# Altium footprint library HIP4082-DualMotorDriver.PcbLib: 16 footprints
Each footprint in its own frame and in the unit in brackets; x right, y up, seen from the top. Pads: shape width x height; smd on the part's side, far side on the other; paste and mask are expansions set on the pad; w line width, h text height; cw(c..) or ccw(c..) is an arc to the next point about the centre after c.
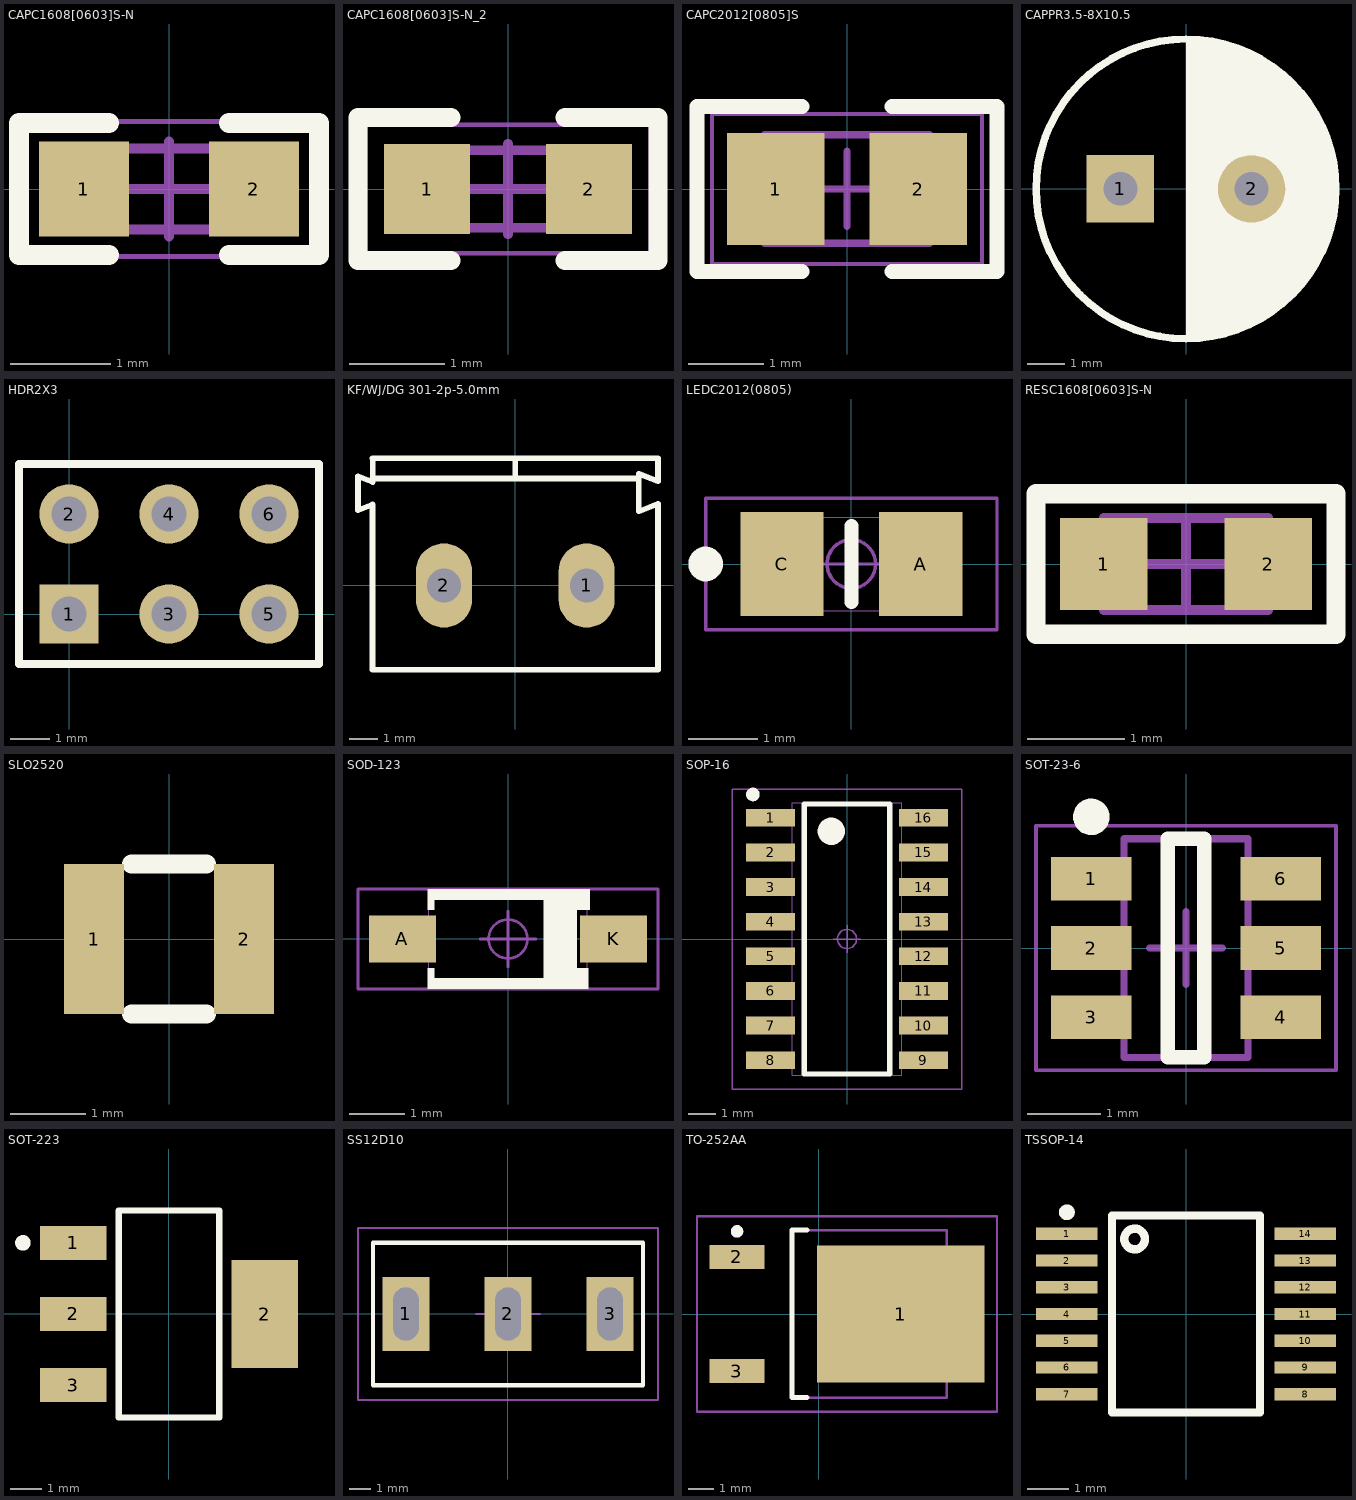
[diagram p0: the footprints below, top view; thin cyan lines are the x and y axes]

## CAPC1608[0603]S-N [mm]
pads (2):
  rect 0.9x0.95 smd: 1(-0.85,0) 2(0.85,0)
Top Overlay:
  lines w0.2: -0.6,-0.66 -1.499,-0.66 -1.499,0.66 -0.6,0.66 ; 0.6,-0.66 1.499,-0.66 1.499,0.66 0.6,0.66
Mechanical 13:
  lines w0.1: -0.8,-0.406 -0.8,0.406 0.825,0.406 0.825,-0.406 -0.8,-0.406
Mechanical 15:
  lines w0.05: -1.5,-0.675 1.5,-0.675 1.5,0.675 -1.5,0.675 -1.5,-0.675
  lines w0.1: -0.475,0 0.475,0 ; 0,-0.475 0,0.475
3D body: height 0.79, standoff 0, extent -0.45,-0.406 0.45,0.406
3D body: height 0.79, standoff 0, extent 0.45,-0.406 0.8,0.407
3D body: height 0.79, standoff 0, extent -0.8,-0.406 -0.45,0.406

## CAPC1608[0603]S-N_2 [mm]
pads (2):
  rect 0.9x0.95 smd: 1(-0.85,0) 2(0.85,0)
Top Overlay:
  lines w0.2: -0.6,-0.75 -1.575,-0.75 -1.575,0.75 -0.6,0.75 ; 0.6,-0.75 1.575,-0.75 1.575,0.75 0.6,0.75
Mechanical 13:
  lines w0.1: -0.8,-0.406 0.825,-0.406 0.825,0.406 -0.8,0.406 -0.8,-0.406
Mechanical 15:
  lines w0.05: -1.5,-0.675 -1.5,0.675 1.5,0.675 1.5,-0.675 -1.5,-0.675
  lines w0.1: -0.475,0 0.475,0 ; 0,-0.475 0,0.475
3D body: height 0.79, standoff 0, extent -0.8,-0.406 -0.45,0.406
3D body: height 0.79, standoff 0, extent 0.45,-0.406 0.8,0.407
3D body: height 0.79, standoff 0, extent -0.45,-0.406 0.45,0.406

## CAPC2012[0805]S [mm]
pads (2):
  rect 1.3x1.5 smd: 1(-0.95,0) 2(0.95,0)
Top Overlay:
  lines w0.2: -0.6,-1.1 -2,-1.1 -2,1.1 -0.6,1.1 ; 0.6,-1.1 2,-1.1 2,1.1 0.6,1.1
Mechanical 13:
  lines w0.1: -1.1,-0.725 1.1,-0.725 1.1,0.725 -1.1,0.725 -1.1,-0.725
Mechanical 15:
  lines w0.05: -1.8,-1 1.8,-1 1.8,1 -1.8,1 -1.8,-1
  lines w0.1: -0.5,0 0.5,0 ; 0,-0.5 0,0.5
3D body: height 1.1, standoff 0, extent 0.6,-0.725 1.1,0.725
3D body: height 1.1, standoff 0, extent -1.1,-0.725 -0.6,0.725
3D body: height 1.1, standoff 0, extent -0.6,-0.725 0.6,0.725

## CAPPR3.5-8X10.5 [mm]
pads (2):
  rect 1.8x1.8 hole 0.9: 1(-1.75,0)
  round 1.8 hole 0.9: 2(1.75,0)
Top Overlay:
  circle w0.2: c0,0 r4
  region: 0,-4.006 0,3.994 0.315,3.994 0.937,3.895 1.535,3.701 2.096,3.415 2.606,3.045 3.051,2.6 3.421,2.09 3.707,1.529 3.902,0.93 4,0.309 4,-0.321 3.902,-0.943 3.707,-1.542 3.421,-2.103 3.051,-2.612 2.606,-3.057 2.096,-3.427 1.535,-3.713 0.937,-3.908 0.315,-4.006
3D body "CAPR3.5-8-10.5.STEP": height 10.5, standoff -2.5, extent -4,-3.984 4,3.985

## HDR2X3 [mm]
pads (6):
  rect 1.5x1.5 hole 0.9: 1(0,0)
  round 1.5 hole 0.9: 2(0,2.54) 3(2.54,0) 4(2.54,2.54) 5(5.08,0) 6(5.08,2.54)
Top Overlay:
  lines w0.2: 1.482,-1.27 6.35,-1.27 ; 6.35,-1.27 6.35,3.81 -1.27,3.81 -1.27,-1.27 6.35,-1.27
3D body "HDR2x3.STEP": height 8.54, standoff -3, extent -1.27,-1.27 6.35,3.81

## KF/WJ/DG 301-2p-5.0mm [mm]
pads (2):
  oval 2x3 hole 1.2: 1(2.54,0) 2(-2.54,0)
Top Overlay:
  lines w0.2: -5.08,2.879 -5.6,2.676 -5.6,3.886 -5.08,3.683 -5.08,4.525 ; 5.08,-2.997 5.08,2.904 4.394,2.636 4.394,3.976 5.08,3.708 5.08,4.525
  lines w0.203: -5.08,2.879 -5.08,-2.997 5.08,-2.997 ; -5.08,3.81 4.365,3.81 ; -5.08,4.525 5.08,4.525 ; 0,3.81 0,4.445
3D body "Terminal-Screw-3A-2way.step": height 10, standoff -3, extent -5.6,-3 5,4.6

## LEDC2012(0805) [mm]
pads (2):
  rect 1.2x1.5 smd: A(1,0) C(-1,0)
Top Overlay:
  circle w0.25: c-2.1,0 r0.125
  lines w0.2: 0,-0.55 0,0.55
Mechanical 15:
  circle w0.05: c0,0 r0.35
  lines w0.001: -1.05,-0.675 1.05,-0.675 1.05,0.675 -1.05,0.675 -1.05,-0.675
  lines w0.05: -0.5,0 0.5,0 ; 0,-0.5 0,0.5 ; -2.1,-0.95 2.1,-0.95 2.1,0.95 -2.1,0.95 -2.1,-0.95
3D body "LEDC0805.STEP": height 1.2, standoff 0, extent -1.05,-0.675 1.05,0.675

## RESC1608[0603]S-N [mm]
pads (2):
  rect 0.9x0.95 smd: 1(-0.85,0) 2(0.85,0)
Top Overlay:
  lines w0.2: -1.55,-0.725 1.55,-0.725 1.55,0.725 -1.55,0.725 -1.55,-0.725
Mechanical 13:
  lines w0.1: -0.85,-0.475 0.85,-0.475 0.85,0.475 -0.85,0.475 -0.85,-0.475
Mechanical 15:
  lines w0.05: -1.5,-0.675 1.5,-0.675 1.5,0.675 -1.5,0.675 -1.5,-0.675
  lines w0.1: -0.475,0 0.475,0 ; 0,-0.475 0,0.475
3D body "R0603.STEP": height 0.45, standoff 0, extent -0.8,-0.4 0.8,0.4

## SLO2520 [mm]
pads (2):
  rect 0.8x2 smd: 1(-1,0) 2(1,0)
Top Overlay:
  lines w0.254: -0.5,-1 0.5,-1 ; -0.5,1 0.5,1
3D body: height 1.1, standoff 0, extent 1,-0.875 1.25,0.875
3D body: height 1.1, standoff 0, extent -1.25,-0.875 -1,0.875
3D body: height 1.2, standoff 0, extent -1.2,-1 1.2,1

## SOD-123 [mm]
pads (2):
  rect 1.2x0.85 smd: A(-1.9,0) K(1.9,0)
Top Overlay:
  rectangle: 0.635,-0.8 1.245,0.8
  rectangle: -1.45,0.525 -1.325,0.9
  region: -1.325,-0.525 -1.45,-0.525 -1.45,-0.9 -1.325,-0.9
  rectangle: 1.1,0.525 1.475,0.9
  region: 1.45,-0.525 1.075,-0.525 1.075,-0.9 1.45,-0.9
  lines w0.2: -1.35,-0.8 1.35,-0.8 ; -1.35,0.8 1.35,0.8
Mechanical 15:
  circle w0.05: c0,0 r0.35
  lines w0.001: -1.425,-0.9 -1.425,0.9 1.425,0.9 1.425,-0.9 -1.425,-0.9
  lines w0.05: -0.5,0 0.5,0 ; 0,-0.5 0,0.5 ; -2.7,-0.9 -2.7,0.9 2.7,0.9 2.7,-0.9 -2.7,-0.9
3D body "SOD-123.STEP": height 1.2, standoff 0, extent -1.85,-0.8 1.85,0.8

## SOP-16 [mm]
pads (16):
  rect 1.8x0.65 smd: 1(-2.8,4.445) 2(-2.8,3.175) 3(-2.8,1.905) 4(-2.8,0.635) 5(-2.8,-0.635) 6(-2.8,-1.905) 7(-2.8,-3.175) 8(-2.8,-4.445) 9(2.8,-4.445) 10(2.8,-3.175) 11(2.8,-1.905) 12(2.8,-0.635) 13(2.8,0.635) 14(2.8,1.905) 15(2.8,3.175) 16(2.8,4.445)
Top Overlay:
  circle w0.5: c-0.575,3.95 r0.25
  circle w0.25: c-3.45,5.3 r0.125
  lines w0.2: -1.575,-4.95 1.575,-4.95 1.575,4.95 -1.575,4.95 -1.575,-4.95
Mechanical 15:
  circle w0.05: c0,0 r0.35
  lines w0.001: -2,-5 2,-5 2,5 -2,5 -2,-5
  lines w0.05: -0.5,0 0.5,0 ; 0,-0.5 0,0.5 ; -4.2,-5.5 4.2,-5.5 4.2,5.5 -4.2,5.5 -4.2,-5.5
3D body "SOIC16.STEP": height 1.75, standoff 0, extent -3.105,-4.95 3.105,4.95

## SOT-23-6 [mm]
pads (6):
  rect 1.1x0.6 smd: 1(-1.3,0.95) 2(-1.3,0) 3(-1.3,-0.95) 4(1.3,-0.95) 5(1.3,0) 6(1.3,0.95)
Top Overlay:
  circle w0.25: c-1.3,1.8 r0.125
  lines w0.2: -0.25,-1.5 0.25,-1.5 0.25,1.5 -0.25,1.5 -0.25,-1.5
Mechanical 13:
  lines w0.1: -0.85,-1.5 -0.85,1.5 0.85,1.5 0.85,-1.5 -0.85,-1.5
Mechanical 15:
  lines w0.05: -2.057,-1.676 -2.057,1.676 2.057,1.676 2.057,-1.676 -2.057,-1.676
  lines w0.1: -0.5,0 0.5,0 ; 0,-0.5 0,0.5
3D body "SOT23-6.STEP": height 1.55, standoff 0, extent -1.504,-1.5 1.504,1.5

## SOT-223 [mm]
pads (4):
  rect 2.15x1.1 smd: 1(-3.1,2.3) 2(-3.1,0) 3(-3.1,-2.3)
  rect 2.15x3.5 smd: 2(3.1,0)
Top Overlay:
  circle w0.25: c-4.725,2.3 r0.125
  lines w0.2: -1.625,-3.35 -1.625,3.35 1.625,3.35 1.625,-3.35 -1.625,-3.35
3D body "SOT-223.step": height 1.7, standoff 0, extent -3.48,-3.25 3.48,3.25

## SS12D10 [mm]
pads (3):
  rect 2.2x3.5 hole 1.2 slot 2.5 at 90 deg mask+0.07: 1(-4.8,0) 2(0,0) 3(4.8,0)
Top Overlay:
  lines w0.2: -6.35,-3.35 6.35,-3.35 6.35,3.35 -6.35,3.35 -6.35,-3.3
Mechanical 15:
  circle w0.1: c0,0 r0.813
  lines w0.1: -1.5,0 1.5,0 ; 0,-1.5 0,1.5 ; -7.05,-4.05 7.05,-4.05 7.05,4.05 -7.05,4.05 -7.05,-4.05
3D body "ms-13aap1.stp": height 12.5, standoff -5.4, extent -6.4,-3.3 6.35,3.8

## TO-252AA [mm]
pads (3):
  rect 6.7x5.5 smd: 1(3.275,0)
  rect 2.2x0.95 smd: 2(-3.275,2.28) 3(-3.275,-2.28)
Top Overlay:
  circle w0.25: c-3.275,3.305 r0.125
  lines w0.2: -0.475,-3.35 -1.075,-3.35 -1.075,3.35 -0.475,3.35
Mechanical 13:
  lines w0.1: -1.075,-3.35 -1.075,3.35 5.125,3.35 5.125,-3.35 -1.075,-3.35
Mechanical 15:
  lines w0.1: 0.625,0 1.625,0 ; 1.125,-0.5 1.125,0.5 ; -4.875,-3.9 -4.875,3.9 7.125,3.9 7.125,-3.9 -4.875,-3.9
3D body "User Library-DPAK-1.STEP": height 2.39, standoff -0.02, extent -3.775,-3.27 6.163,3.27

## TSSOP-14 [mm]
pads (14):
  rect 1.5x0.3 smd mask+0.07: 1(-2.9,1.95) 2(-2.9,1.3) 3(-2.9,0.65) 4(-2.9,0) 5(-2.9,-0.65) 6(-2.9,-1.3) 7(-2.9,-1.95) 8(2.9,-1.95) 9(2.9,-1.3) 10(2.9,-0.65) 11(2.9,0) 12(2.9,0.65) 13(2.9,1.3) 14(2.9,1.95)
Top Overlay:
  circle w0.203: c-1.25,1.825 r0.251
  circle w0.203: c-2.9,2.475 r0.092
  lines w0.2: -1.8,-2.4 1.8,-2.4 1.8,2.4 -1.8,2.4 -1.8,-2.4
3D body "TSSOP14.stp": height 1.13, standoff 0, extent -3.2,-2.5 3.2,2.5